# Altium footprint library 744777004.PCBLIB: 3 footprints
Each footprint in its own frame and in the unit in brackets; x right, y up, seen from the top. Pads: shape width x height; smd on the part's side, far side on the other; paste and mask are expansions set on the pad; w line width, h text height; cw(c..) or ccw(c..) is an arc to the next point about the centre after c.
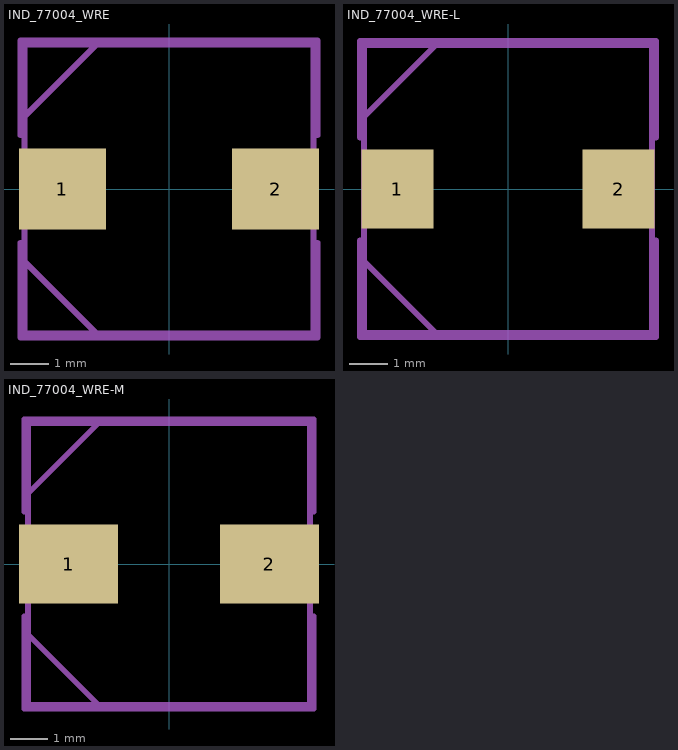
[diagram p0: the footprints below, top view; thin cyan lines are the x and y axes]

## IND_77004_WRE [mil]
pads (2):
  rect 89x83 smd: 1(-109,0) 2(109,0)
tDocu:
  lines w6: -148,-74 -74,-148 ; -148,74 -74,148 ; -148,-148 148,-148 148,148 -148,148 -148,-148
tPlace:
  lines w6: -152,-55 -152,-152 152,-152 152,-55 ; -152,55 -152,152 152,152 152,55

## IND_77004_WRE-L [mil]
pads (2):
  rect 74x81 smd: 1(-113.5,0) 2(113.5,0)
tDocu:
  lines w6: -148,-74 -74,-148 ; -148,74 -74,148 ; -148,-148 148,-148 148,148 -148,148 -148,-148
tPlace:
  lines w6: -152,-53 -152,-152 152,-152 152,-53 ; -152,53 -152,152 152,152 152,53

## IND_77004_WRE-M [mil]
pads (2):
  rect 104x83 smd: 1(-105.5,0) 2(105.5,0)
tDocu:
  lines w6: -148,-74 -74,-148 ; -148,74 -74,148 ; -148,-148 148,-148 148,148 -148,148 -148,-148
tPlace:
  lines w6: -152,-55 -152,-152 152,-152 152,-55 ; -152,55 -152,152 152,152 152,55